# Altium schematic symbol library MAX32664.SchLib: 1 symbol
Pins are listed as number, name and electrical type; pins without a type are passive.

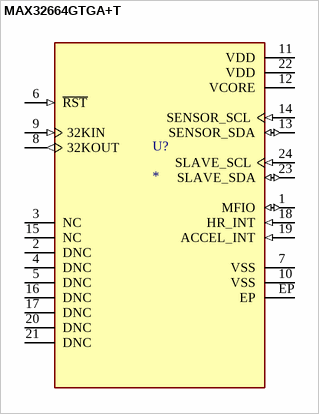
[diagram p0: symbol MAX32664GTGA+T]

## MAX32664GTGA+T
designator U?
MF: {'manufacturer': u'Analog Devices Inc./Maxim Integrated'}; MP: MAX32664GTGA+T; Package: None; Price: None; Value: *; Availability: Unavailable
footprint IC_MAX32664GTGA+T
pins: 1 MFIO (io), 2 DNC, 3 NC, 4 DNC, 5 DNC, 6 ~{RST} (in), 7 VSS (power), 8 32KOUT (out), 9 32KIN (in), 10 VSS (power), 11 VDD (power), 12 VCORE (power), 13 SENSOR_SDA (io), 14 SENSOR_SCL (in), 15 NC, 16 DNC, 17 DNC, 18 HR_INT (in), 19 ACCEL_INT (in), 20 DNC, 21 DNC, 22 VDD (power), 23 SLAVE_SDA (io), 24 SLAVE_SCL (in), EP (power)